# EAGLE library part WII_NUNCHUCK_DEV (library Blizzard_Library)
Wiii Nunchuck Breakout
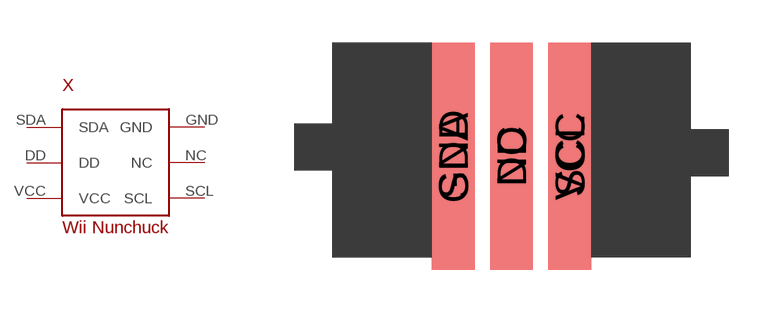
[diagram p13: symbol with the pads of WII_NUNCHUCK_PKG; footprint WII_NUNCHUCK_PKG]

Designator prefix X

## WII_NUNCHUCK_DEV  [WII_NUNCHUCK_PKG]
DD  DD
GND  GND
NC  NC
SCL  SCL
SDA  SDA
VCC  VCC

## Footprint WII_NUNCHUCK_PKG (pad centres in mm)
Wii Nunchuck Breakout
smd 1.5 x 8: DD 0,-4; SDA -2.05,-4; VCC 2.05,-4
smd 1.5 x 8 bottom: GND -2.05,-4; NC 0,-4; SCL 2.05,-4